# Altium schematic symbol library SN74LVC1G07DCKRG4.SchLib: 1 symbol
Pins are listed as number, name and electrical type; pins without a type are passive.

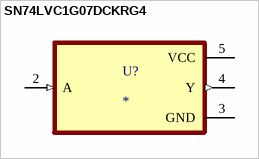
[diagram p0: symbol SN74LVC1G07DCKRG4]

## SN74LVC1G07DCKRG4
designator U?
Single Buffer/Driver With Open-Drain Output 5-SC70 -40 to 125; MF: Texas Instruments; MP: SN74LVC1G07DCKRG4; Check_prices: https://www.snapeda.com/parts/SN74LVC1G07DCKRG4/Texas+Instruments/view-part/?ref=eda; Value: *; Purchase-URL: https://pricing.snapeda.com/search/part/SN74LVC1G07DCKRG4/?ref=eda; Price: None; SnapEDA_Link: https://www.snapeda.com/parts/SN74LVC1G07DCKRG4/Texas+Instruments/view-part/?ref=snap; Availability: In Stock; Package: SOT-SC70-5 Texas Instruments
footprint SOT65P210X110-5N
pins: 2 A (in), 3 GND (power), 4 Y (out), 5 VCC (power)